# Altium schematic symbol library Diodes.SchLib: 4 symbols
Pins are listed as number, name and electrical type; pins without a type are passive.

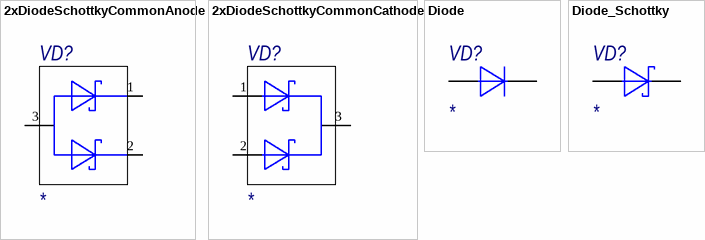
[diagram p0: symbols 2xDiodeSchottkyCommonAnode to Diode_Schottky]

## 2xDiodeSchottkyCommonAnode
designator VD?
Value: *; Name: *; Body: *
footprint SOT23-3 (SOT23, 3 pin)
pins: 1 A, 2 A, 3 K

## 2xDiodeSchottkyCommonCathode
designator VD?
Value: *; Name: *; Body: *
footprint SOT23-3 (SOT23, 3 pin)
pins: 1 A, 2 A, 3 K

## Diode
designator VD?
Value: *; Body: *; Name: *
footprint SOD_123
footprint SOT23-3 (SOT23, 3 pin); pin to pad 2>3
footprint SMA (Molded Diode, 2-Leads, Body 4.30x2.61mm, IPC Medium Density)
pins: 1 A, 2 K

## Diode_Schottky
designator VD?
Value: *; Name: *; Body: *
footprint smc
footprint SOD323 (Molded Diode, 2-Leads, Body 1,70x1,26mm, IPC Medium Density)
footprint SMB (Molded Diode, 2-Leads, Body 4,32x3,63mm, IPC Medium Density)
footprint SOT23-3 (SOT23, 3 pin); pin to pad 2>3
footprint SMA (Molded Diode, 2-Leads, Body 4.30x2.61mm, IPC Medium Density)
pins: 1 A, 2 K